# Altium schematic symbol library Conn-12pos.SchLib: 1 symbol
Pins are listed as number, name and electrical type; pins without a type are passive.

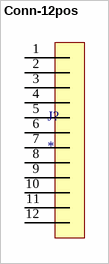
[diagram p0: symbol Conn-12pos]

## Conn-12pos
designator J?
pins: 1, 2, 3, 4, 5, 6, 7, 8, 9, 10, 11, 12